# Altium footprint library Electromechanics.PcbLib: 6 footprints
Each footprint in its own frame and in the unit in brackets; x right, y up, seen from the top. Pads: shape width x height; smd on the part's side, far side on the other; paste and mask are expansions set on the pad; w line width, h text height; cw(c..) or ccw(c..) is an arc to the next point about the centre after c.
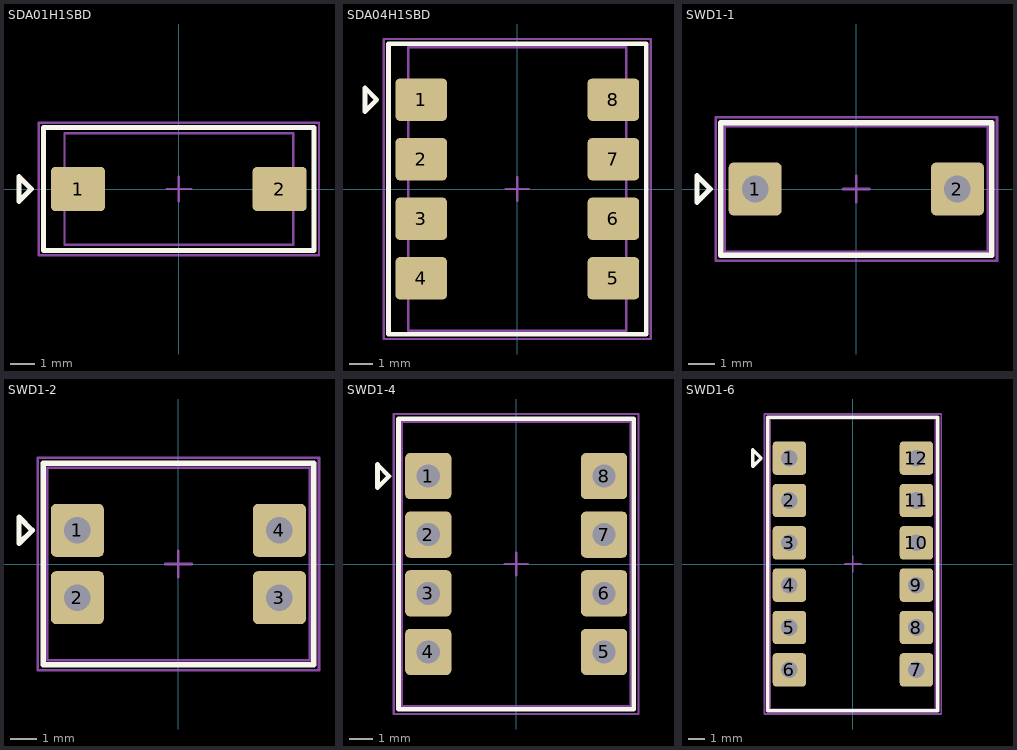
[diagram p0: the footprints below, top view; thin cyan lines are the x and y axes]

## SDA01H1SBD [mm]
pads (2):
  rrect20% 2.2x1.8 smd: 1(-4.1,0) 2(4.1,0)
Top Overlay:
  lines w0.2: -6.5,-0.5 -6.5,0.5 -6,0 -6.5,-0.5 ; -5.5,-2.5 -5.5,2.5 5.5,2.5 5.5,1.7 5.5,-2.5 -5.5,-2.5
Mechanical 1:
  lines w0.1: -4.65,-2.261 -4.65,2.26 4.65,2.26 4.65,-2.261 -4.65,-2.261
Mechanical 15:
  lines w0.1: -0.5,0 0.5,0 ; 0,-0.5 0,0.5 ; -5.7,-2.7 -5.7,2.7 5.7,2.7 5.7,-2.7 -5.7,-2.7
3D body "SDA01H1SBD.stp": height 5.48, standoff -0.02, extent -4.65,-2.261 4.65,2.26

## SDA04H1SBD [mm]
pads (8):
  rrect20% 2.2x1.8 smd: 1(-4.1,3.81) 2(-4.1,1.27) 3(-4.1,-1.27) 4(-4.1,-3.81) 5(4.1,-3.81) 6(4.1,-1.27) 7(4.1,1.27) 8(4.1,3.81)
Top Overlay:
  lines w0.2: -6.496,3.31 -5.996,3.81 -6.496,4.31 -6.496,3.31 ; -5.5,-6.2 5.5,-6.2 5.5,6.2 -5.5,6.2 -5.5,-6.2
Mechanical 1:
  lines w0.1: -4.65,-6.045 4.65,-6.045 4.65,6.045 -4.65,6.045 -4.65,-6.045
Mechanical 15:
  lines w0.1: -0.5,0 0.5,0 ; 0,-0.5 0,0.5 ; -5.7,-6.4 -5.7,6.4 5.7,6.4 5.7,-6.4 -5.7,-6.4
3D body "SDA04H1SBD.stp": height 5.5, standoff 0, extent -4.65,-6.045 4.65,6.045

## SWD1-1 [mm]
pads (2):
  rrect20% 2x2 hole 1 unplated: 1(-3.81,0) 2(3.81,0)
Top Overlay:
  lines w0.2: -6,-0.5 -5.5,0 -6,0.5 -6,-0.5 ; -5.1,-2.5 -5.1,2.5 5.1,2.5 5.1,-2.5 -5.1,-2.5
Mechanical 1:
  lines w0.1: -4.95,-2.36 4.95,-2.36 4.95,2.36 -4.95,2.36 -4.95,-2.36
Mechanical 15:
  lines w0.1: -0.5,0 0.5,0 ; 0,-0.5 0,0.5 ; -5.3,-2.7 -5.3,2.7 5.3,2.7 5.3,-2.7 -5.3,-2.7
3D body "SW_DIP_SPSTx01_Slide_9.78x4.72mm_W7.62mm_P2.54mm.step": height 6.85, standoff -3.1, extent -4.95,-2.36 4.95,2.36

## SWD1-2 [mm]
pads (4):
  rrect20% 2x2 hole 1 unplated: 1(-3.81,1.27) 2(-3.81,-1.27) 3(3.81,-1.27) 4(3.81,1.27)
Top Overlay:
  lines w0.2: -6.01,0.77 -5.51,1.27 -6.01,1.77 -6.01,0.77 ; -5.1,-3.8 5.1,-3.8 5.1,3.8 -5.1,3.8 -5.1,-3.8
Mechanical 1:
  lines w0.1: -4.95,-3.63 -4.95,3.63 4.95,3.63 4.95,-3.63 -4.95,-3.63
Mechanical 15:
  lines w0.1: -0.5,0 0.5,0 ; 0,-0.5 0,0.5 ; -5.3,-4 5.3,-4 5.3,4 -5.3,4 -5.3,-4
3D body "SW_DIP_SPSTx02_Slide_9.78x7.26mm_W7.62mm_P2.54mm.step": height 6.85, standoff -3.1, extent -4.95,-3.63 4.95,3.63

## SWD1-4 [mm]
pads (8):
  rrect20% 2x2 hole 1 unplated: 1(-3.81,3.81) 2(-3.81,1.27) 3(-3.81,-1.27) 4(-3.81,-3.81) 5(3.81,-3.81) 6(3.81,-1.27) 7(3.81,1.27) 8(3.81,3.81)
Top Overlay:
  lines w0.2: -6.01,3.31 -5.51,3.81 -6.01,4.31 -6.01,3.31 ; -5.1,-6.3 -5.1,6.3 5.1,6.3 5.1,-6.3 -5.1,-6.3
Mechanical 1:
  lines w0.1: -4.95,-6.17 4.95,-6.17 4.95,6.17 -4.95,6.17 -4.95,-6.17
Mechanical 15:
  lines w0.1: -0.5,0 0.5,0 ; 0,-0.5 0,0.5 ; -5.3,-6.5 5.3,-6.5 5.3,6.5 -5.3,6.5 -5.3,-6.5
3D body "SW_DIP_SPSTx04_Slide_9.78x12.34mm_W7.62mm_P2.54mm.step": height 6.85, standoff -3.1, extent -4.95,-6.17 4.95,6.17

## SWD1-6 [mm]
pads (12):
  rrect20% 2x2 hole 1: 1(-3.81,6.35) 2(-3.81,3.81) 3(-3.81,1.27) 4(-3.81,-1.27) 5(-3.81,-3.81) 6(-3.81,-6.35) 7(3.81,-6.35) 8(3.81,-3.81) 9(3.81,-1.27) 10(3.81,1.27) 11(3.81,3.81) 12(3.81,6.35)
Top Overlay:
  lines w0.2: -6.01,5.85 -5.51,6.35 -6.01,6.85 -6.01,5.85 ; -5.1,-8.8 5.1,-8.8 5.1,8.8 -5.1,8.8 -5.1,-8.8
Mechanical 1:
  lines w0.1: -4.95,-8.71 4.95,-8.71 4.95,8.71 -4.95,8.71 -4.95,-8.71
Mechanical 15:
  lines w0.1: -0.5,0 0.5,0 ; 0,-0.5 0,0.5 ; -5.3,-9 5.3,-9 5.3,9 -5.3,9 -5.3,-9
3D body "SW_DIP_SPSTx06_Slide_9.78x17.42mm_W7.62mm_P2.54mm.step": height 6.85, standoff -3.1, extent -4.95,-8.71 4.95,8.71